# Altium footprint library lib-tom.PcbLib: 12 footprints
Each footprint in its own frame and in the unit in brackets; x right, y up, seen from the top. Pads: shape width x height; smd on the part's side, far side on the other; paste and mask are expansions set on the pad; w line width, h text height; cw(c..) or ccw(c..) is an arc to the next point about the centre after c.
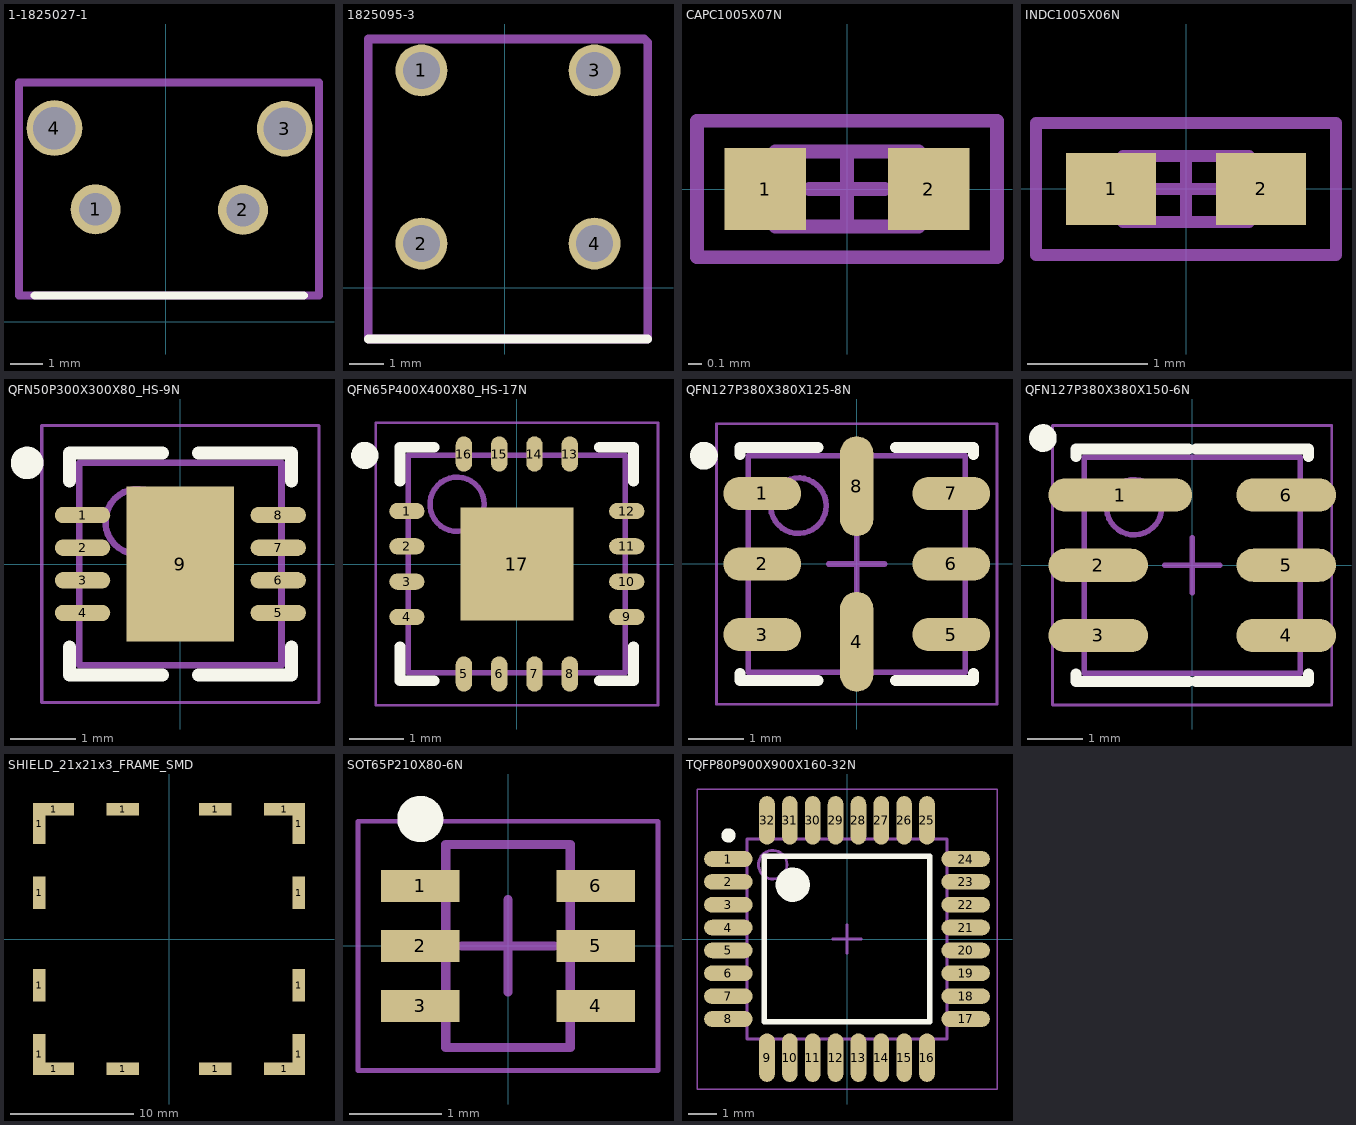
[diagram p0: the footprints below, top view; thin cyan lines are the x and y axes]

## 1-1825027-1 [mm] "Button, SPST, Off-Momentary, Normally Open, 24V, 50mA, Round, 7mm"
height 8.35
pads (4):
  round 1.524 hole 1: 1(-2.146,3.43) 2(2.35,3.412)
  round 1.7 hole 1.3: 3(3.624,5.89) 4(-3.403,5.908)
Top Overlay:
  lines w0.254: -4,0.8 4.2,0.8
Mechanical 15:
  lines w0.254: -4.482,0.8 -4.482,7.3 4.669,7.3 4.669,0.8 -4.482,0.8
3D body: height 7.1, standoff -3.42, extent -4.104,-4.94 4.304,7.417

## 1825095-3 [mil] "Button, SPST, Off-Momentary, Normally Open, 20V, 0.4VA"
height 226.38
pads (4):
  round 60 hole 43: 1(-96.07,251.13) 2(-96.07,51.13) 3(103.93,251.13) 4(103.93,51.13)
Top Overlay:
  lines w10: -157.48,-59.06 165.35,-59.06
Mechanical 15:
  lines w10: -157.48,-59.06 165.35,-59.06 165.35,283.46 161.42,287.4 -157.48,287.4 -157.48,-59.06
3D body: height 225.05, standoff -130.95, extent -156.06,-199.86 163.94,288.14

## CAPC1005X07N [mm] "Chip Capacitor, 2-Leads, Body 1.0x0.5mm, IPC Medium Density"
height 0.65
pads (2):
  rect 0.6x0.6 smd: 1(-0.6,0) 2(0.6,0)
Mechanical 13:
  lines w0.1: -0.525,-0.275 0.525,-0.275 0.525,0.275 -0.525,0.275 -0.525,-0.275
Mechanical 15:
  lines w0.1: -0.275,0 0.275,0 ; 0,-0.275 0,0.275 ; -1.1,-0.5 1.1,-0.5 1.1,0.5 -1.1,0.5 -1.1,-0.5
3D body: height 0.6, standoff 0, extent -0.5,-0.25 0.5,0.25

## INDC1005X06N [mm] "Chip Inductor, 2-Leads, Body 1.0x0.5mm, IPC Medium Density"
height 0.55
pads (2):
  rect 0.75x0.6 smd: 1(-0.625,0) 2(0.625,0)
Mechanical 13:
  lines w0.1: -0.525,-0.275 0.525,-0.275 0.525,0.275 -0.525,0.275 -0.525,-0.275
Mechanical 15:
  lines w0.1: -0.275,0 0.275,0 ; 0,-0.275 0,0.275 ; -1.25,-0.55 1.25,-0.55 1.25,0.55 -1.25,0.55 -1.25,-0.55
3D body: height 0.55, standoff 0, extent -0.525,-0.275 0.525,0.275

## MECH [mm] "Mechanical Component"

## QFN50P300X300X80_HS-9N [mm] "QFN, 8-Leads, Body 3.00x3.00mm, Pitch 0.50mm, Thermal Pad 1.65x2.38mm, IPC Medium Density"
height 0.8
pads (9):
  oval 0.85x0.25 smd mask+0.05: 1(-1.5,0.75) 2(-1.5,0.25) 3(-1.5,-0.25) 4(-1.5,-0.75) 5(1.5,-0.75) 6(1.5,-0.25) 7(1.5,0.25) 8(1.5,0.75)
  rect 1.65x2.38 smd mask+0.05: 9(0,0)
Top Overlay:
  circle w0.25: c-2.35,1.55 r0.125
  lines w0.2: -1.7,-1.275 -1.7,-1.7 -0.275,-1.7 ; -1.7,1.275 -1.7,1.7 -0.275,1.7 ; 0.275,-1.7 1.7,-1.7 1.7,-1.275 ; 0.275,1.7 1.7,1.7 1.7,1.275
Mechanical 13:
  circle w0.1: c-0.65,0.65 r0.5
  lines w0.1: -1.55,-1.55 -1.55,1.55 1.55,1.55 1.55,-1.55 -1.55,-1.55
Mechanical 15:
  lines w0.05: -2.125,-2.125 -2.125,2.125 2.125,2.125 2.125,-2.125 -2.125,-2.125
  lines w0.1: -0.5,0 0.5,0
3D body: height 0.8, standoff 0, extent -1.55,-1.55 1.55,1.55

## QFN65P400X400X80_HS-17N [mm] "QFN, 16-Leads, Body 4.00x4.00mm, Pitch 0.65mm, Thermal Pad 2.08x2.08mm, IPC Medium Density"
height 0.8
pads (17):
  oval 0.65x0.3 smd: 1(-2.025,0.975) 2(-2.025,0.325) 3(-2.025,-0.325) 4(-2.025,-0.975) 9(2.025,-0.975) 10(2.025,-0.325) 11(2.025,0.325) 12(2.025,0.975)
  oval 0.3x0.65 smd: 5(-0.975,-2.025) 6(-0.325,-2.025) 7(0.325,-2.025) 8(0.975,-2.025) 13(0.975,2.025) 14(0.325,2.025) 15(-0.325,2.025) 16(-0.975,2.025)
  rect 2.08x2.08 smd: 17(0,0)
Top Overlay:
  circle w0.25: c-2.8,2 r0.125
  lines w0.2: -2.15,-1.525 -2.15,-2.15 -1.525,-2.15 ; -2.15,1.525 -2.15,2.15 -1.525,2.15 ; 1.525,-2.15 2.15,-2.15 2.15,-1.525 ; 1.525,2.15 2.15,2.15 2.15,1.525
Mechanical 13:
  circle w0.1: c-1.1,1.1 r0.5
  lines w0.1: -2,-2 2,-2 2,2 -2,2 -2,-2
Mechanical 15:
  lines w0.05: -2.6,-2.6 2.6,-2.6 2.6,2.6 -2.6,2.6 -2.6,-2.6
  lines w0.1: -0.5,0 0.5,0 ; 0,-0.5 0,0.5
3D body: height 0.8, standoff 0, extent -2,-2 2,2

## QFN127P380X380X125-8N [mm] "QFN, 8-Leads, Body 3.80x3.80mm, Pitch 1.27mm, IPC Medium Density"
height 1.25
pads (8):
  oval 1.4x0.6 smd: 1(-1.7,1.27) 2(-1.7,0) 3(-1.7,-1.27) 5(1.7,-1.27) 6(1.7,0) 7(1.7,1.27)
  oval 0.6x1.8 smd: 4(0,-1.4) 8(0,1.4)
Top Overlay:
  circle w0.25: c-2.75,1.95 r0.125
  lines w0.2: -2.1,-1.97 -2.1,-2.1 -0.7,-2.1 ; -2.1,1.97 -2.1,2.1 -0.7,2.1 ; 0.7,-2.1 2.1,-2.1 2.1,-1.97 ; 0.7,2.1 2.1,2.1 2.1,1.97
Mechanical 13:
  circle w0.1: c-1.05,1.05 r0.5
  lines w0.1: -1.95,-1.95 1.95,-1.95 1.95,1.95 -1.95,1.95 -1.95,-1.95
Mechanical 15:
  lines w0.05: -2.525,-2.525 2.525,-2.525 2.525,2.525 -2.525,2.525 -2.525,-2.525
  lines w0.1: -0.5,0 0.5,0 ; 0,-0.5 0,0.5
3D body: height 1.25, standoff 0, extent -1.95,-1.95 1.95,1.95

## QFN127P380X380X150-6N [mm] "QFN, 6-Leads, Body 3.80x3.80mm, Pitch 1.27mm, IPC Medium Density"
height 1.5
pads (6):
  oval 2.6x0.6 smd: 1(-1.3,1.27)
  oval 1.8x0.6 smd: 2(-1.7,0) 3(-1.7,-1.27) 4(1.7,-1.27) 5(1.7,0) 6(1.7,1.27)
Top Overlay:
  circle w0.25: c-2.7,2.3 r0.125
  lines w0.2: -2.1,-1.97 -2.1,-2.1 -0.065,-2.1 ; -2.1,1.97 -2.1,2.1 -0.065,2.1 ; 0.065,-2.1 2.1,-2.1 2.1,-1.97 ; 0.065,2.1 2.1,2.1 2.1,1.97
Mechanical 13:
  circle w0.1: c-1.05,1.05 r0.5
  lines w0.1: -1.95,-1.95 1.95,-1.95 1.95,1.95 -1.95,1.95 -1.95,-1.95
Mechanical 15:
  lines w0.05: -2.525,-2.525 2.525,-2.525 2.525,2.525 -2.525,2.525 -2.525,-2.525
  lines w0.1: -0.5,0 0.5,0 ; 0,-0.5 0,0.5
3D body: height 1.5, standoff 0, extent -1.95,-1.95 1.95,1.95

## SHIELD_21x21x3_FRAME_SMD [mm] "BRF Shield, Frame, 20mm x 20mm x 3mm, SMD"
height 3
pads (16):
  rect 1x3.3 smd: 1(-10.5,-9.35) 1(-10.5,9.35) 1(10.5,-9.35) 1(10.5,9.35)
  rect 1x2.6 smd: 1(-10.5,-3.75) 1(-10.5,3.75) 1(10.5,-3.75) 1(10.5,3.75)
  rect 3.3x1 smd: 1(-9.35,-10.5) 1(-9.35,10.5) 1(9.35,-10.5) 1(9.35,10.5)
  rect 2.6x1 smd: 1(-3.75,-10.5) 1(-3.75,10.5) 1(3.75,-10.5) 1(3.75,10.5)
3D body: height 3.5, standoff 0, extent -10.5,-10.7 10.5,10.3

## SOT65P210X80-6N [mm] "SOT23, 6-Leads, Body 2.00x2.10mm, Pitch 0.65mm, IPC Medium Density"
height 0.8
pads (6):
  rect 0.85x0.35 smd: 1(-0.95,0.65) 2(-0.95,0) 3(-0.95,-0.65) 4(0.95,-0.65) 5(0.95,0) 6(0.95,0.65)
Top Overlay:
  circle w0.25: c-0.95,1.375 r0.125
Mechanical 13:
  lines w0.1: -0.675,-1.1 -0.675,1.1 0.675,1.1 0.675,-1.1 -0.675,-1.1
Mechanical 15:
  lines w0.05: -1.625,-1.35 -1.625,1.35 1.625,1.35 1.625,-1.35 -1.625,-1.35
  lines w0.1: -0.5,0 0.5,0 ; 0,-0.5 0,0.5
3D body: height 1, standoff -0.05, extent -1.131,-1 1.131,1

## TQFP80P900X900X160-32N [mm] "TQFP, 32-Leads, Body 7.00x7.00mm, Pitch 0.80mm, IPC Medium Density"
height 1.6
pads (32):
  oval 1.7x0.55 smd mask+0.05: 1(-4.15,2.8) 2(-4.15,2) 3(-4.15,1.2) 4(-4.15,0.4) 5(-4.15,-0.4) 6(-4.15,-1.2) 7(-4.15,-2) 8(-4.15,-2.8) 17(4.15,-2.8) 18(4.15,-2) 19(4.15,-1.2) 20(4.15,-0.4) 21(4.15,0.4) 22(4.15,1.2) 23(4.15,2) 24(4.15,2.8)
  oval 0.55x1.7 smd mask+0.05: 9(-2.8,-4.15) 10(-2,-4.15) 11(-1.2,-4.15) 12(-0.4,-4.15) 13(0.4,-4.15) 14(1.2,-4.15) 15(2,-4.15) 16(2.8,-4.15) 25(2.8,4.15) 26(2,4.15) 27(1.2,4.15) 28(0.4,4.15) 29(-0.4,4.15) 30(-1.2,4.15) 31(-2,4.15) 32(-2.8,4.15)
Top Overlay:
  circle w0.6: c-1.9,1.9 r0.3
  circle w0.25: c-4.15,3.625 r0.125
  lines w0.2: -2.9,-2.9 2.9,-2.9 2.9,2.9 -2.9,2.9 -2.9,-2.9
Mechanical 13:
  circle w0.1: c-2.6,2.6 r0.5
  lines w0.1: -3.5,-3.5 3.5,-3.5 3.5,3.5 -3.5,3.5 -3.5,-3.5
Mechanical 15:
  lines w0.05: -5.25,-5.25 5.25,-5.25 5.25,5.25 -5.25,5.25 -5.25,-5.25
  lines w0.1: -0.5,0 0.5,0 ; 0,-0.5 0,0.5
3D body: height 1.5, standoff 0.02, extent -4.5,-4.5 4.5,4.5